# Altium footprint library CAPPRD200W50D525H1250.PcbLib: 1 footprints
Each footprint in its own frame and in the unit in brackets; x right, y up, seen from the top. Pads: shape width x height; smd on the part's side, far side on the other; paste and mask are expansions set on the pad; w line width, h text height; cw(c..) or ccw(c..) is an arc to the next point about the centre after c.
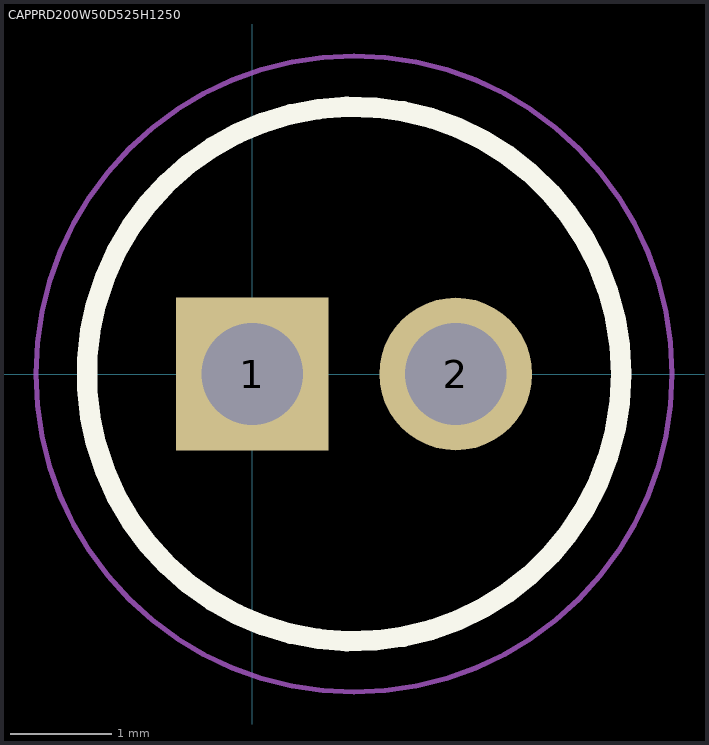
[diagram p0: the footprint, top view; thin cyan lines are the x and y axes]

## CAPPRD200W50D525H1250 [mm]
pads (2):
  rect 1.5x1.5 hole 1: 1(0,0)
  round 1.5 hole 1: 2(2,0)
Top Overlay:
  circle w0.2: c1,0 r2.625
Mechanical 13:
  circle w0.1: c1,0 r2.625
Mechanical 15:
  circle w0.05: c1,0 r3.125
3D body "UKL2A0R1KDD.stp": height 12.5, standoff -10, extent -1.75,-2.75 3.75,2.75